# EAGLE library part C-ARRAY-4X (library p.peter-rcl)
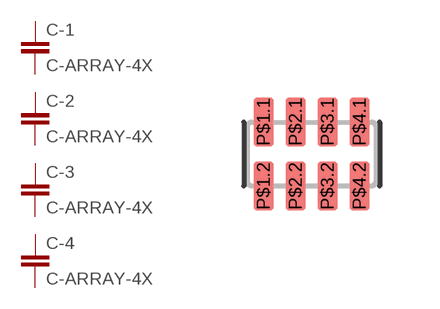
[diagram p1: symbol with the pads of C-ARRAY-4X-KEMET-0603; footprint C-ARRAY-4X-KEMET-0603]

Designator prefix C; gates -1=C-EU -2=C-EU -3=C-EU -4=C-EU

## C-ARRAY-4X-0603  [C-ARRAY-4X-KEMET-0603]
P$1.1  -1:1  pas
P$1.2  -1:2  pas
P$2.1  -2:1  pas
P$2.2  -2:2  pas
P$3.1  -3:1  pas
P$3.2  -3:2  pas
P$4.1  -4:1  pas
P$4.2  -4:2  pas

## Footprint C-ARRAY-4X-KEMET-0603 (pad centres in mm)
KEMET C1632 series
smd 0.5 x 1.2: P$1.1 -1.2,0.8; P$1.2 -1.2,-0.8; P$2.1 -0.4,0.8; P$2.2 -0.4,-0.8; P$3.1 0.4,0.8; P$3.2 0.4,-0.8; P$4.1 1.2,0.8; P$4.2 1.2,-0.8